# EAGLE library part BQ24005PWP (library FSAE Eletric)
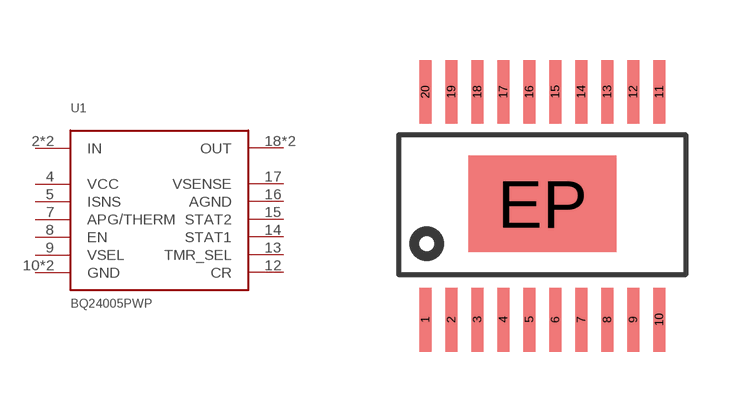
[diagram p25: symbol with the pads of HTSSOP-20; footprint HTSSOP-20]

Designator prefix U1

## BQ24005PWP  [HTSSOP-20]
2  IN
3  IN
4  VCC
5  ISNS
7  APG/THERM
8  EN
9  VSEL
10  GND
12  CR
13  TMR_SEL
14  STAT1
15  STAT2
16  AGND
17  VSENSE
18  OUT
19  OUT
EP  GND

## Footprint HTSSOP-20 (pad centres in mm)
smd 0.3 x 1.6: 1 -2.925,-2.9; 2 -2.275,-2.9; 3 -1.625,-2.9; 4 -0.975,-2.9; 5 -0.325,-2.9; 6 0.325,-2.9; 7 0.975,-2.9; 8 1.625,-2.9; 9 2.275,-2.9; 10 2.925,-2.9; 11 2.925,2.8; 12 2.275,2.8; 13 1.625,2.8; 14 0.975,2.8; 15 0.325,2.8; 16 -0.325,2.8; 17 -0.975,2.8; 18 -1.625,2.8; 19 -2.275,2.8; 20 -2.925,2.8
smd 3.7 x 2.4: EP 0,0